# Altium footprint library TE 284392-3.PcbLib: 1 footprints
Each footprint in its own frame and in the unit in brackets; x right, y up, seen from the top. Pads: shape width x height; smd on the part's side, far side on the other; paste and mask are expansions set on the pad; w line width, h text height; cw(c..) or ccw(c..) is an arc to the next point about the centre after c.
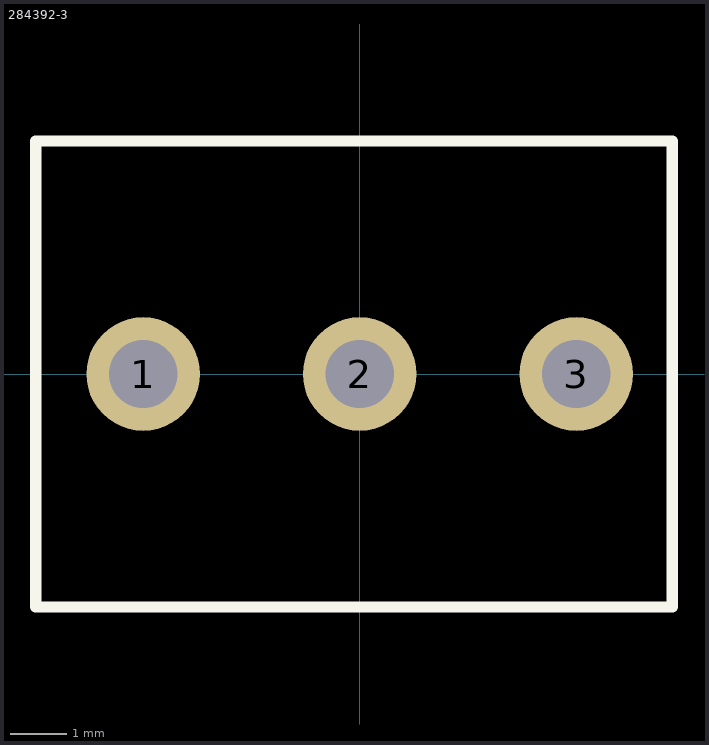
[diagram p0: the footprint, top view; thin cyan lines are the x and y axes]

## 284392-3 [mm] "PCB Terminal Blocks, Header, Wire-to-Board, 3 Positions, 3.81mm"
height 15
pads (3):
  round 2 hole 1.2: 1(-3.81,0) 2(0,0) 3(3.81,0)
Top Overlay:
  lines w0.2: -5.7,-4.1 5.5,-4.1 5.5,4.1 -5.7,4.1 -5.7,-4.1
3D body "c-284392-3-b-3d.stp": height 12.65, standoff -3.45, extent -5.815,-4.1 6.115,4.1